# Altium schematic symbol library DHT22.SchLib: 1 symbol
Pins are listed as number, name and electrical type; pins without a type are passive.

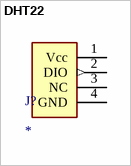
[diagram p0: symbol DHT22]

## DHT22
designator J?
Capacitive-type humidity and temperature module/sensor; MF: Aosong Electronics; MP: DHT22; SnapEDA_Link: https://www.snapeda.com/parts/DHT22/Aosong+Electronics/view-part/?ref=snap; Value: *; Check_prices: https://www.snapeda.com/parts/DHT22/Aosong+Electronics/view-part/?ref=eda; Availability: Not in stock; Price: None; Package: Package
footprint DHT22
footprint DHT22_without_Hole
pins: 1 Vcc (power), 2 DIO (out), 3 NC, 4 GND (power)